# EAGLE library part MAX17502 (library customics)
60V, 1A, Ultra-Small, High-Efficiency, Synchronous Step-Down DC-DC Converter (3.3V output) Source: https://datasheets.maximintegrated.com/en/ds/MAX17502.pdf
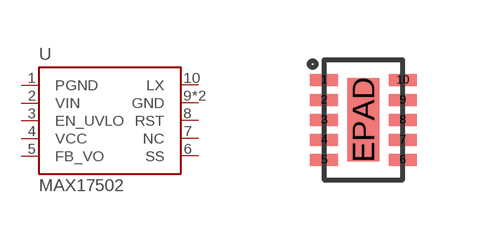
[diagram p1: symbol with the pads of TDFN-10-EP; footprint TDFN-10-EP]

Designator prefix U

## MAX17502  [TDFN-10-EP]
1  PGND  pwr
2  VIN  pwr
3  EN_UVLO  in
4  VCC  pwr
5  FB_VO  in
6  SS  in
7  NC  nc
8  RST  out
9  GND  pwr
10  LX  pwr
EPAD  GND  pwr

## Footprint TDFN-10-EP (pad centres in mm)
smd 0.7 x 0.3: 1 -0.985,1; 2 -0.985,0.5; 3 -0.985,0; 4 -0.985,-0.5; 5 -0.985,-1; 6 0.985,-1; 7 0.985,-0.5; 8 0.985,0; 9 0.985,0.5; 10 0.985,1
smd 0.8 x 2.08: EPAD 0,0